# EAGLE library part JOYSTICK (library Shell2015)
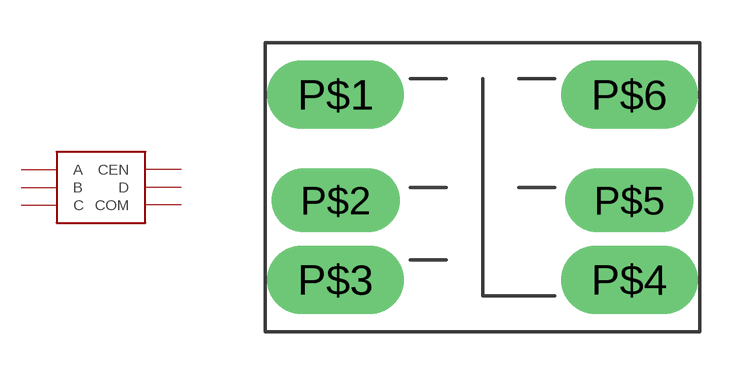
[diagram p2: symbol with the pads of JOYSTICK; footprint JOYSTICK]

Designator prefix -

## JOYSTICK  [JOYSTICK]
P$1  A
P$2  B
P$3  C
P$4  COM
P$5  D
P$6  CEN

## Footprint JOYSTICK (pad centres in mm)
drill 1.6 long: P$1 -5.15,3.25; P$3 -5.15,-3.25; P$4 5.15,-3.25; P$6 5.15,3.25
drill 1.5 long: P$2 -5.15,-0.45; P$5 5.15,-0.45